# Altium schematic symbol library SPST-NO 5 PIN.SchLib: 1 symbol
Pins are listed as number, name and electrical type; pins without a type are passive.

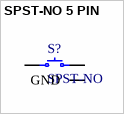
[diagram p0: symbol SPST-NO 5 PIN]

## SPST-NO 5 PIN
designator S?, comment SPST-NO
pins: 1, 2, 3, 4, 5 GND